# Altium footprint library PWR561C.PcbLib: 34 footprints (part 2 of 3)
Each footprint in its own frame and in the unit in brackets; x right, y up, seen from the top. Pads: shape width x height; smd on the part's side, far side on the other; paste and mask are expansions set on the pad; w line width, h text height; cw(c..) or ccw(c..) is an arc to the next point about the centre after c.
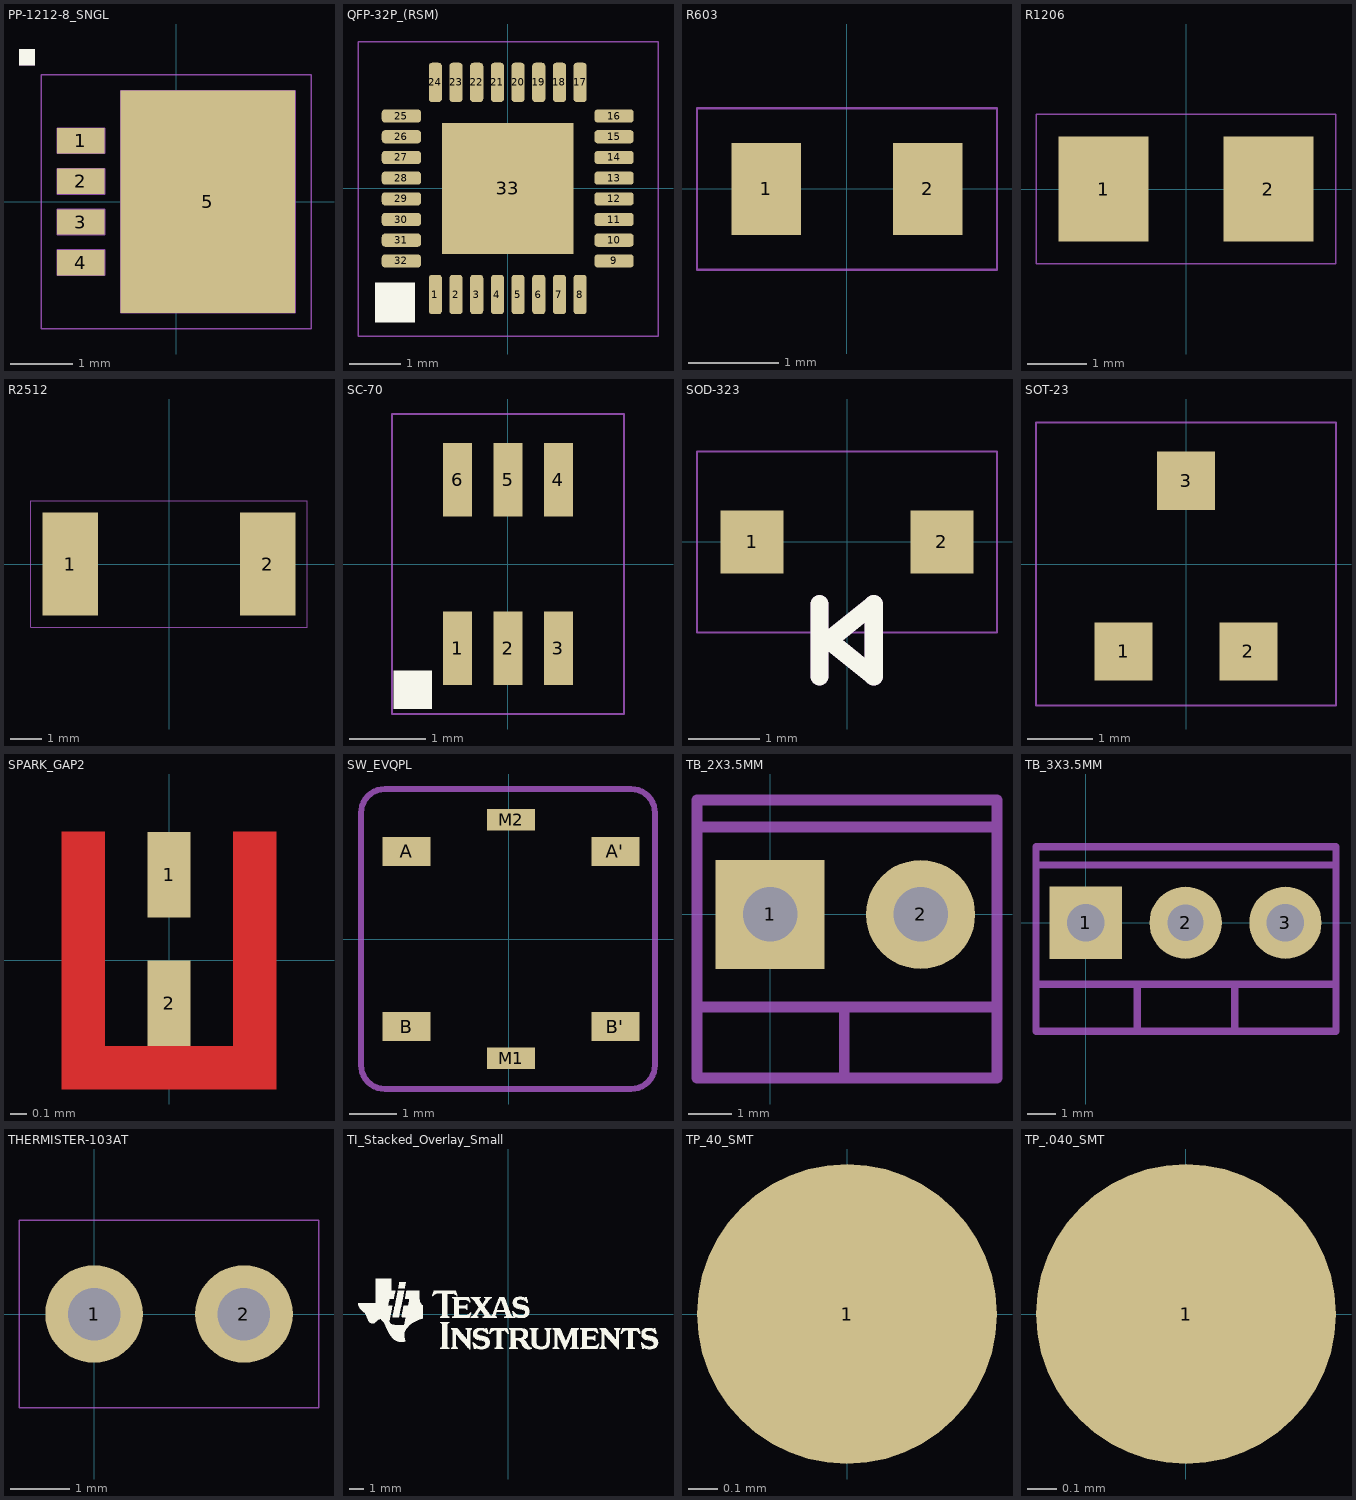
[diagram p1: the footprints below, top view; thin cyan lines are the x and y axes]

## PP-1212-8_SNGL [mil]
pads (5):
  rect 30x16 smd: 1(-60,38.39) 2(-60,12.8) 3(-60,-12.8) 4(-60,-38.39)
  rect 110x140 smd: 5(20,0)
Top Overlay:
  region: -99,86 -89,86 -89,96 -94,96 -99,96
Mechanical 2:
  region: -99,86 -89,86 -89,96 -99,96
Mechanical 5:
  lines w1: -85,-80 85,-80 85,80 -85,80 -85,-80
Mechanical 16:
  lines w0.98: -75,-46.39 -75,-30.39 -45,-30.39 -45,-46.39 -75,-46.39 ; -75,-20.8 -75,-4.8 -45,-4.8 -45,-20.8 -75,-20.8 ; -75,4.8 -75,20.8 -45,20.8 -45,4.8 -75,4.8 ; -75,30.39 -75,46.39 -45,46.39 -45,30.39 -75,30.39 ; -35,-70 -35,70 75,70 75,-70 -35,-70

## QFP-32P_(RSM) [mil]
pads (33):
  rrect50% 10x30 smd: 1(-55.12,-80.71) 2(-39.37,-80.71) 3(-23.62,-80.71) 4(-7.87,-80.71) 5(7.87,-80.71) 6(23.62,-80.71) 7(39.37,-80.71) 8(55.12,-80.71) 17(55.12,80.71) 18(39.37,80.71) 19(23.62,80.71) 20(7.87,80.71) 21(-7.87,80.71) 22(-23.62,80.71) 23(-39.37,80.71) 24(-55.12,80.71)
  rrect50% 30x10 smd: 9(80.91,-55.12) 10(80.91,-39.37) 11(80.91,-23.62) 12(80.91,-7.87) 13(80.91,7.87) 14(80.91,23.62) 15(80.91,39.37) 16(80.91,55.12) 25(-80.91,55.12) 26(-80.91,39.37) 27(-80.91,23.62) 28(-80.91,7.87) 29(-80.91,-7.87) 30(-80.91,-23.62) 31(-80.91,-39.37) 32(-80.91,-55.12)
  rect 100x100 smd: 33(0,0)
Top Overlay:
  region: -100.94,-101.72 -70.94,-101.72 -70.94,-71.72 -100.94,-71.72
Mechanical 5:
  lines w1: -113.98,-112.6 114.37,-112.6 114.37,111.81 -113.98,111.81 -113.98,-112.6

## R603 [mil]
pads (2):
  rect 30x40 smd: 1(-35,0) 2(35,0)
Mechanical 5:
  lines w1: -65,-35 -65,35 65,35 65,-35 -65,-35

## R1206 [mil]
pads (2):
  rect 60x70 smd: 1(-55,0) 2(55,0)
Mechanical 5:
  lines w1: -100,-50 -100,50 100,50 100,-50 -100,-50

## R2512 [mil]
pads (2):
  rect 70x130 smd: 1(-125,0) 2(125,0)
Mechanical 5:
  lines w1: -175,-80 -175,80 175,80 175,-80 -175,-80

## SC-70 [mil]
pads (6):
  rect 15x38 smd: 1(-25.9,-43.4) 2(0.1,-43.4) 3(26.1,-43.4) 4(26.1,43.6) 5(0.1,43.6) 6(-25.9,43.6)
Top Overlay:
  region: -39.37,-74.8 -59.06,-74.8 -59.06,-55.12 -39.37,-55.12
Mechanical 5:
  lines w1.1: -59.9,-77.4 60.1,-77.4 60.1,77.6 -59.9,77.6 -59.9,-77.4

## SOD-323 [mil]
pads (2):
  rect 35x35 smd mask+5: 1(-52.5,0) 2(52.5,0)
Top Overlay:
  lines w10: -15.2,-74.4 -15.2,-34.4 ; -10.2,-54.4 14.8,-34.4 14.8,-74.4 -10.2,-54.4
Mechanical 5:
  lines w1.1: -15.2,-74.4 -15.2,-34.4 ; -15.2,-74.4 -15.2,-34.4 ; -15.2,-74.4 -15.2,-34.4 ; -15.2,-74.4 -15.2,-34.4 ; -12.7,-54.4 -15.2,-54.4 -12.7,-54.4 ; -12.7,-54.4 14.8,-74.4 ; -12.7,-54.4 14.8,-74.4 ; -10.2,-54.4 14.8,-34.4 ; -10.2,-54.4 14.8,-74.4 ; -10.2,-54.4 14.8,-34.4 ; -10.2,-54.4 14.8,-74.4 ; 14.8,-74.4 14.8,-34.4 ; 14.8,-74.4 14.8,-34.4 ; 14.8,-34.4 -15.2,-56.9 14.8,-34.4 ; -83,-50 -83,50 83,50 83,-50 -83,-50
  lines w10: -15.2,-74.4 -15.2,-34.4 ; -10.2,-54.4 14.8,-74.4 14.8,-34.4 -10.2,-54.4

## SOT-23 [mil]
pads (3):
  rect 35x35 smd: 1(-37.5,-52.5) 2(37.5,-52.5) 3(0,50)
Mechanical 5:
  lines w1.1: -90,-85 -90,85 90,85 90,-85 -75,-85 -90,-85

## SPARK_GAP2 [mil]
pads (2):
  rect 10x20 smd: 1(0,20) 2(0,-10)
Top Layer:
  region: -15,30 -25,30 -25,-30 25,-30 25,30 15,30 15,-20 -15,-20
Top Solder:
  region: -25,-30 25,-30 25,40 -25,40

## SW_EVQPL [mil]
pads (6):
  rect 40x24 smd: A(-85,73) A'(89,73) B(-85,-73) B'(89,-73)
  rect 40x18 smd: M1(2,-99.5) M2(2,99.5)
Mechanical 5:
  lines w5: -123,-105 ccw(c-103,-105) -103,-125 102,-125 ccw(c102,-105) 122,-105 122,105 ccw(c102,105) 102,125 -103,125 ccw(c-103,105) -123,105 -123,-105

## TB_2X3.5MM [mil]
pads (2):
  rect 100x100 hole 50: 1(0,0)
  round 100 hole 50: 2(138,0)
Mechanical 5:
  lines w10: -67,-85 208,-85 ; -67,80 208,80 ; 68,-150 68,-85 ; -67,-150 208,-150 208,105 -67,105 -67,-150
  text ".Designator" at 53.29,-40 h30

## TB_3X3.5MM [mil]
pads (3):
  rect 100x100 hole 52: 1(0,0)
  round 100 hole 50: 2(138,0)
  round 100 hole 52: 3(276,0)
Mechanical 5:
  lines w10: -69,-85 346,-85 ; -69,80 346,80 ; 71,-150 71,-85 ; 206,-150 206,-85 ; -69,-150 346,-150 346,105 -69,105 -69,-150
  text ".Designator" at 153,-15 h30

## THERMISTER-103AT [mil]
pads (2):
  round 65 hole 35: 1(0,0) 2(100,0)
Mechanical 5:
  lines w1: -50,-62.5 150,-62.5 150,62.5 -50,62.5 -50,-62.5
  text ".Designator" at 18.66,-14.5 h30

## TI_Stacked_Overlay_Small [mil]
Top Overlay:
  drawing of 18 lines, arcs and shapes, not listed

## TP_40_SMT [mil]
pads (1):
  round 40 smd: 1(0,0)

## TP_.040_SMT [mil]
pads (1):
  round 40 smd: 1(0,0)